# Altium footprint library OptoDevice.PcbLib: 103 footprints (part 5 of 7)
Each footprint in its own frame and in the unit in brackets; x right, y up, seen from the top. Pads: shape width x height; smd on the part's side, far side on the other; paste and mask are expansions set on the pad; w line width, h text height; cw(c..) or ccw(c..) is an arc to the next point about the centre after c.
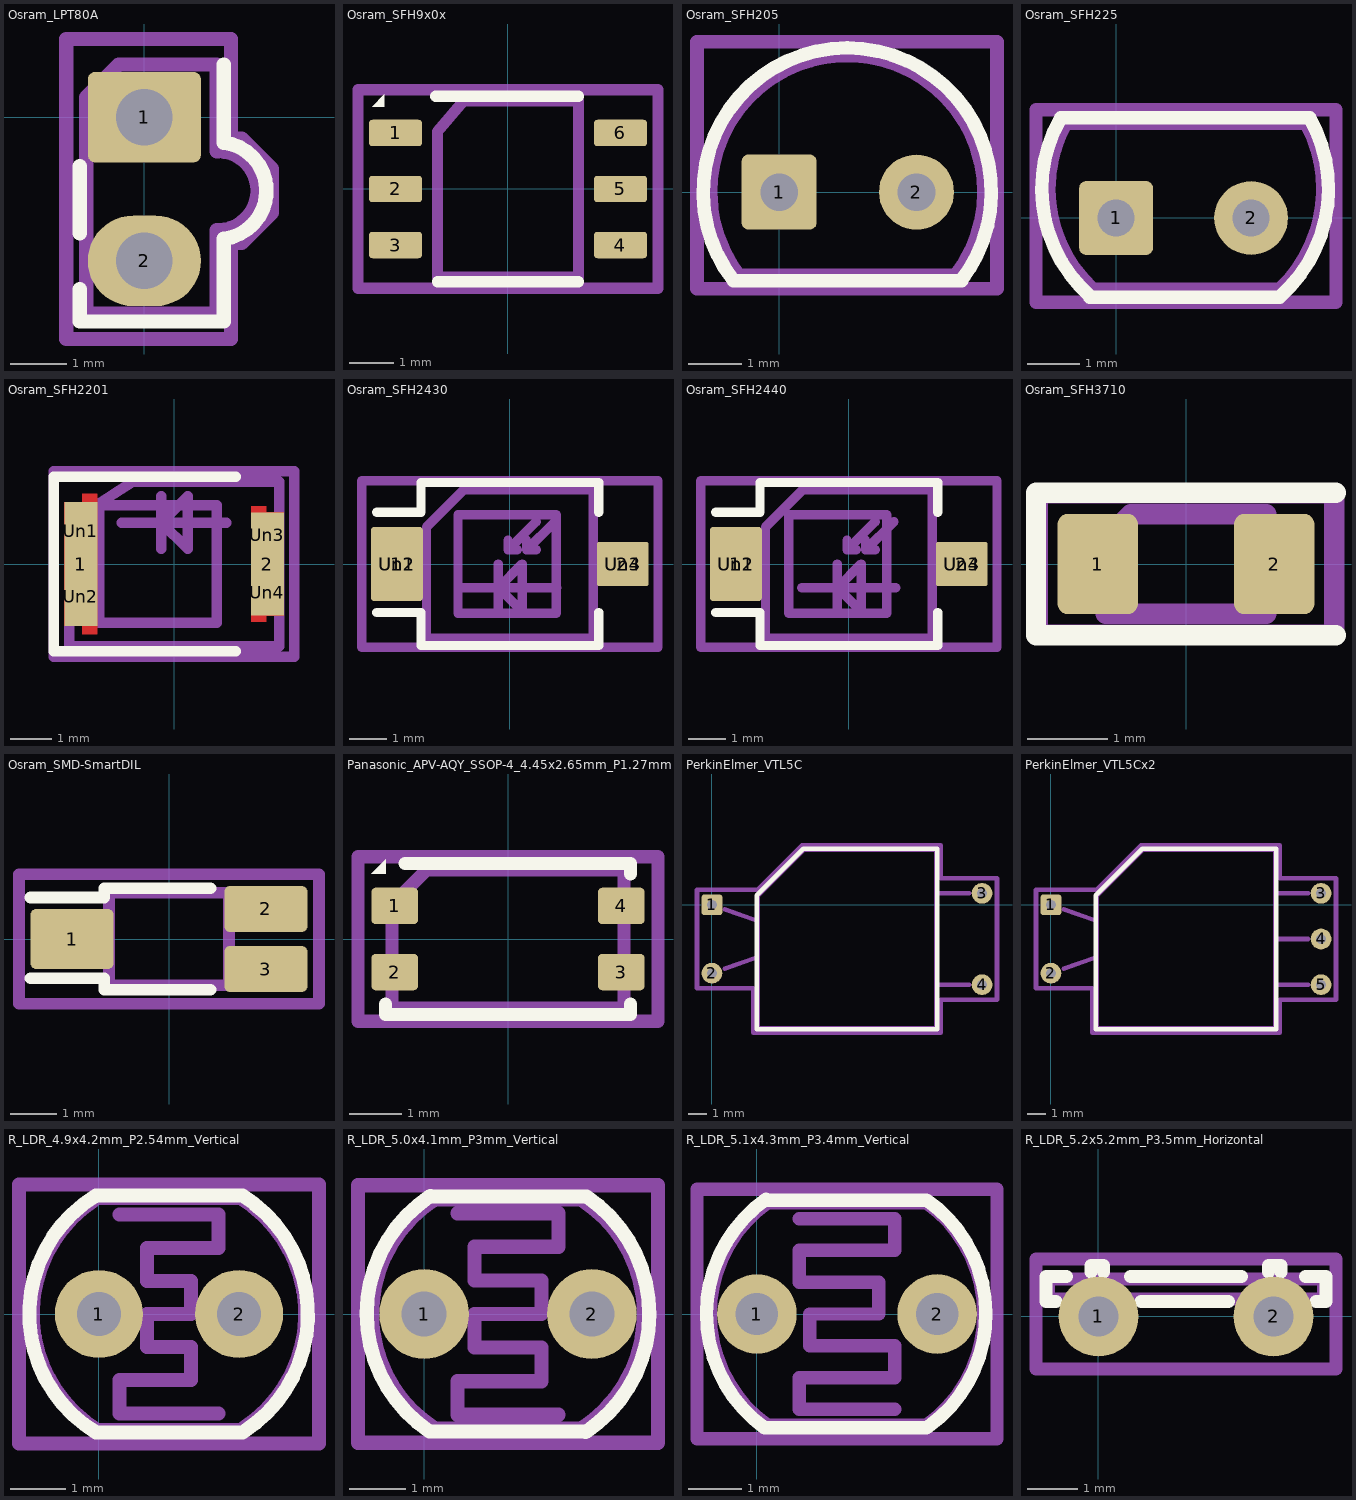
[diagram p4: the footprints below, top view; thin cyan lines are the x and y axes]

## Osram_LPT80A [mm]
pads (2):
  rrect16% 2x1.6 hole 1: 1(0,0)
  rrect100% 2x1.6 hole 1: 2(0,-2.54)
F.SilkS:
  lines w0.254: -1.14,-3.04 -1.14,-3.61 1.4,-3.61 1.4,-2.15 ccw(c1.3,-1.3) 2.15,-1.2 ; -1.14,-2.05 -1.14,-0.87 ; 1.4,0.93 1.4,-0.45 cw(c1.3,-1.3) 2.15,-1.4
Top Assembly:
  lines w0.254: 1.28,-2 1.28,-3.47 -1.03,-3.47 -1.03,0.35 -0.45,0.93 1.28,0.93 1.28,-0.6 ; 1.3,-2 ccw(c1.3,-1.3) 2,-1.3 ccw(c1.3,-1.3) 1.3,-0.6
  text "'.Designator'" at 1.04,-5.347 h1
Top Courtyard:
  lines w0.254: -1.38,-3.92 1.53,-3.92 1.53,-2.22 1.72,-2.22 2.25,-1.69 2.25,-0.91 1.72,-0.38 1.53,-0.38 1.53,1.38 -1.38,1.38 -1.38,-3.92
Top Designator:
  text ".Designator" at -7.183,-1.958 h1.52
3D body "Osram_LPT80A.step": height 5.69, standoff -16.25, extent -0.787,-3.47 1.46,0.93

## Osram_SFH9x0x [mm]
pads (6):
  rrect25% 1.2x0.6 smd: 1(-2.55,1.27) 2(-2.55,0) 3(-2.55,-1.27) 4(2.55,-1.27) 5(2.55,0) 6(2.55,1.27)
F.SilkS:
  region: -2.8,1.87 -3.08,1.87 -2.8,2.15
  lines w0.254: -1.64,2.1 1.6,2.1 ; -1.6,-2.1 1.6,-2.1
Top Assembly:
  lines w0.254: -1.6,-2 1.6,-2 1.6,2 -1,2 -1.6,1.3 -1.6,-2
  text "'.Designator'" at -3.033,-0.728 h0.75
Top Courtyard:
  lines w0.254: -3.4,-2.25 3.4,-2.25 3.4,2.25 -3.4,2.25 -3.4,-2.25
Top Designator:
  text ".Designator" at -7.618,-0.508 h1.52
3D body "Osram_SFH9x0x.step": height 1.95, standoff 0, extent -3,-2 3,2

## Osram_SFH205 [mm]
pads (2):
  rrect18% 1.4x1.4 hole 0.7: 1(0,0)
  round 1.4 hole 0.7: 2(2.56,0)
F.SilkS:
  lines w0.254: 3.394,-1.645 ccw(c1.27,0) -0.85,-1.65 3.4,-1.65
Top Assembly:
  lines w0.254: 3.294,-1.545 ccw(c1.27,0) -0.75,-1.55 3.3,-1.55
  text "'.Designator'" at -2.777,-0.133 h1
Top Courtyard:
  lines w0.254: -1.53,-1.8 4.06,-1.8 4.06,2.8 -1.53,2.8 -1.53,-1.8
Top Designator:
  text ".Designator" at -6.498,-0.008 h1.52
3D body "Osram_SFH205.step": height 9.9, standoff -3, extent -1.28,-1.55 3.817,2.55

## Osram_SFH225 [mm]
pads (2):
  rrect18% 1.4x1.4 hole 0.7: 1(0,0)
  round 1.4 hole 0.7: 2(2.56,0)
F.SilkS:
  lines w0.254: -0.5,-1.5 3.05,-1.5 ; -0.489,-1.488 cw(c1.3,0.549) -1.05,1.9 3.65,1.9 ; 3.1,-1.5 ccw(c1.3,0.55) 3.669,1.904
Top Assembly:
  lines w0.254: -0.45,-1.35 3.1,-1.35 ccw(c1.3,0.55) 3.59,1.817 ; -0.444,-1.343 cw(c1.3,0.55) -0.95,1.8 3.55,1.8
  text "'.Designator'" at -2.759,-0.39 h1
Top Courtyard:
  lines w0.254: -1.52,-1.6 4.17,-1.6 4.17,2.05 -1.52,2.05 -1.52,-1.6
Top Designator:
  text ".Designator" at -6.48,-0.283 h1.52
3D body "Osram_SFH225.step": height 9.9, standoff -3, extent -1.28,-1.35 3.82,1.75

## Osram_SFH2201 [mm]
pads (6):
  rect 0.8x3 smd: 1(-2.265,0)
  rect 0.8x2.5 smd: 2(2.265,0)
  rect 0.6x1 on Top Paste: Un1(-2.265,0.8) Un2(-2.265,-0.8) Un3(2.265,0.7) Un4(2.265,-0.7)
F.Cu:
  region: -1.865,-1.7 -2.235,-1.7 -2.235,-1.5 -2.665,-1.5 -2.665,1.5 -2.235,1.5 -2.235,1.7 -1.865,1.7
  region: 2.235,1.25 2.665,1.25 2.665,-1.25 2.235,-1.25 2.235,-1.4 1.865,-1.4 1.865,1.4 2.235,1.4
F.SilkS:
  lines w0.254: 1.5,-2.12 -2.925,-2.12 -2.925,2.12 1.5,2.12
F.Mask:
  region: -1.865,-1.7 -2.235,-1.7 -2.235,-1.5 -2.665,-1.5 -2.665,1.5 -2.235,1.5 -2.235,1.7 -1.865,1.7
  region: 2.235,1.25 2.665,1.25 2.665,-1.25 2.235,-1.25 2.235,-1.4 1.865,-1.4 1.865,1.4 2.235,1.4
Top Assembly:
  lines w0.254: -1.27,1 1.27,1 ; -0.31,0.37 -0.31,1.64 ; -2.545,-2 -2.545,1 -1,2 2.545,2 2.545,-2 -2.545,-2 ; -0.31,1 0.33,1.64 0.33,0.37 -0.31,1
  text "'.Designator'" at -4.047,-1.84 h1
Top Courtyard:
  lines w0.254: -2.92,-2.25 -2.92,2.25 2.92,2.25 2.92,-2.25 -2.92,-2.25
Top Designator:
  text ".Designator" at -7.768,-0.508 h1.52
Cmts.User:
  lines w0.254: -1.815,-1.425 -1.815,1.425 1.035,1.425 1.035,-1.425 -1.815,-1.425

## Osram_SFH2430 [mm]
pads (6):
  rrect12% 1.4x2 smd: 1(-3.05,0)
  rrect12% 1.4x1.2 smd: 2(3.05,0)
  rrect12% 1.3x1.9 on Top Paste: Un1(-3.05,0)
  rrect12% 1.5x2.1 on Top Solder: Un2(-3.05,0)
  rrect12% 1.3x1.1 on Top Paste: Un3(3.05,0)
  rrect12% 1.5x1.3 on Top Solder: Un4(3.05,0)
F.SilkS:
  lines w0.254: -3.59,-1.31 -2.4,-1.31 -2.4,-2.2 2.4,-2.2 2.4,-1.31 ; -3.59,1.4 -2.41,1.4 ; -2.4,1.4 -2.4,2.2 2.4,2.2 2.4,1.4
Top Assembly:
  lines w0.254: -1.27,-0.64 1.27,-0.64 ; -0.31,-1.27 -0.31,0 ; -0.05,0.64 -0.05,0.38 ; 0.2,0.38 -0.05,0.38 ; 0.45,0.64 0.45,0.38 ; 0.71,0.38 0.45,0.38 ; 0.71,1.14 -0.05,0.38 ; 1.22,1.14 0.45,0.38 ; -2.25,-2 2.25,-2 2.25,2 -1.25,2 -2.25,1 -2.25,-2 ; -0.31,-0.64 0.33,-1.27 0.33,0 -0.31,-0.64
  text "'.Designator'" at -4.037,2.36 h1
Top Courtyard:
  lines w0.254: -4,-2.25 4,-2.25 4,2.25 -4,2.25 -4,-2.25
Top Designator:
  text ".Designator" at -7.647,0.082 h1.52
Cmts.User:
  lines w0.254: -1.4,-1.325 1.25,-1.325 1.25,1.325 -1.4,1.325 -1.4,-1.325

## Osram_SFH2440 [mm]
pads (6):
  rrect12% 1.4x2 smd: 1(-3.05,0)
  rrect12% 1.4x1.2 smd: 2(3.05,0)
  rrect12% 1.3x1.9 on Top Paste: Un1(-3.05,0)
  rrect12% 1.5x2.1 on Top Solder: Un2(-3.05,0)
  rrect12% 1.3x1.1 on Top Paste: Un3(3.05,0)
  rrect12% 1.5x1.3 on Top Solder: Un4(3.05,0)
F.SilkS:
  lines w0.254: -3.59,-1.31 -2.4,-1.31 -2.4,-2.2 2.4,-2.2 2.4,-1.31 ; -3.59,1.4 -2.41,1.4 ; -2.4,1.4 -2.4,2.2 2.4,2.2 2.4,1.4
Top Assembly:
  lines w0.254: -1.27,-0.64 1.27,-0.64 ; -0.31,-1.27 -0.31,0 ; -0.05,0.64 -0.05,0.38 ; 0.2,0.38 -0.05,0.38 ; 0.45,0.64 0.45,0.38 ; 0.71,0.38 0.45,0.38 ; 0.71,1.14 -0.05,0.38 ; 1.22,1.14 0.45,0.38 ; -2.25,-2 2.25,-2 2.25,2 -1.25,2 -2.25,1 -2.25,-2 ; -0.31,-0.64 0.33,-1.27 0.33,0 -0.31,-0.64
  text "'.Designator'" at -4.037,2.36 h1
Top Courtyard:
  lines w0.254: -4,-2.25 4,-2.25 4,2.25 -4,2.25 -4,-2.25
Top Designator:
  text ".Designator" at -7.647,0.082 h1.52
Cmts.User:
  lines w0.254: -1.625,-1.325 1.025,-1.325 1.025,1.325 -1.625,1.325 -1.625,-1.325

## Osram_SFH3710 [mm]
pads (2):
  rrect25% 1x1.25 smd: 1(-1.1,0) 2(1.1,0)
F.SilkS:
  lines w0.254: 1.87,-0.89 -1.87,-0.89 -1.87,0.89 1.87,0.89
Top Assembly:
  lines w0.254: -1,-0.62 1,-0.62 1,0.62 -0.69,0.62 -1,0.31 -1,-0.62
  text "'.Designator'" at -2.023,-0.42 h0.5
Top Courtyard:
  lines w0.254: -1.85,-0.88 1.85,-0.88 1.85,0.88 -1.85,0.88 -1.85,-0.88
Top Designator:
  text ".Designator" at -7.668,-0.508 h1.52

## Osram_SMD-SmartDIL [mm]
pads (3):
  rrect19% 1.8x1.3 smd: 1(-2.1,0)
  rrect25% 1.8x1 smd: 2(2.1,0.65) 3(2.1,-0.65)
F.SilkS:
  lines w0.254: -3,-0.85 -1.4,-0.85 -1.4,-1.1 0.9,-1.1 ; -3,0.9 -1.4,0.9 -1.4,1.1 0.9,1.1
Top Assembly:
  lines w0.254: -1.35,-0.4 -2.3,-0.4 -2.3,0.4 -1.3,0.4 ; 1.3,-0.7 2.3,-0.7 2.3,-0.3 1.3,-0.3 ; 1.3,0.3 2.3,0.3 2.3,0.7 1.3,0.7 ; -1.3,-1 1.3,-1 1.3,1 -1.3,1 -1.3,-1
  text "'.Designator'" at -4.047,-0.84 h1
Top Courtyard:
  lines w0.254: -3.25,-1.4 3.25,-1.4 3.25,1.4 -3.25,1.4 -3.25,-1.4
Top Designator:
  text ".Designator" at -7.768,-0.508 h1.52

## Panasonic_APV-AQY_SSOP-4_4.45x2.65mm_P1.27mm [mm]
pads (4):
  rrect25% 0.9x0.7 smd: 1(-2.175,0.635) 2(-2.175,-0.635) 3(2.175,-0.635) 4(2.175,0.635)
F.SilkS:
  region: -2.35,1.25 -2.63,1.25 -2.35,1.53
  lines w0.254: -2.35,-1.25 -2.35,-1.45 2.35,-1.45 2.35,-1.25 ; -1.98,1.45 2.35,1.45 2.35,1.25
Top Assembly:
  lines w0.254: -2.225,-1.325 2.225,-1.325 2.225,1.325 -1.562,1.325 -2.225,0.663 -2.225,-1.325
  text "'.Designator'" at -4.047,-0.84 h1
Top Courtyard:
  lines w0.254: -2.88,-1.58 2.88,-1.58 2.88,1.58 -2.88,1.58 -2.88,-1.58
Top Designator:
  text ".Designator" at -7.768,-0.508 h1.52

## PerkinElmer_VTL5C [mm]
pads (4):
  rrect25% 1.15x1.15 hole 0.55: 1(0,0)
  round 1.15 hole 0.55: 2(0,-3.8) 3(15,0.64) 4(15,-4.44)
F.SilkS:
  lines w0.254: 2.49,-6.91 12.51,-6.91 12.51,3.11 5.07,3.11 2.49,0.53 2.49,-6.91
Top Assembly:
  lines w0.254: 0.7,-3.55 2.55,-2.9 ; 0.7,-0.25 2.55,-0.9 ; 12.45,-4.44 14.3,-4.44 ; 12.45,0.64 14.3,0.64 ; 2.55,-6.85 12.45,-6.85 12.45,3.05 5.1,3.05 2.55,0.5 2.55,-6.85
  text "'.Designator'" at 3.503,-2.69 h1
Top Courtyard:
  lines w0.254: -0.83,-4.63 2.3,-4.63 2.3,-7.1 12.7,-7.1 12.7,-5.27 15.83,-5.27 15.83,1.47 12.7,1.47 12.7,3.3 5,3.3 2.53,0.83 -0.83,0.83 -0.83,-4.63
Top Designator:
  text ".Designator" at -0.118,-2.408 h1.52

## PerkinElmer_VTL5Cx2 [mm]
pads (5):
  rrect25% 1.15x1.15 hole 0.55: 1(0,0)
  round 1.15 hole 0.55: 2(0,-3.8) 3(15,0.64) 4(15,-1.9) 5(15,-4.44)
F.SilkS:
  lines w0.254: 2.49,-6.91 2.49,0.53 5.07,3.11 12.51,3.11 12.51,-6.91 2.49,-6.91
Top Assembly:
  lines w0.254: 0.7,-3.55 2.55,-2.9 ; 0.7,-0.25 2.55,-0.9 ; 12.45,-4.44 14.3,-4.44 ; 12.45,-1.9 14.3,-1.9 ; 12.45,0.64 14.3,0.64 ; 2.55,-6.85 2.55,0.5 5.1,3.05 12.45,3.05 12.45,-6.85 2.55,-6.85
  text "'.Designator'" at 3.503,-2.69 h1
Top Courtyard:
  lines w0.254: -0.83,-4.63 -0.83,0.83 2.53,0.83 5,3.3 12.7,3.3 12.7,1.47 15.83,1.47 15.83,-5.27 12.7,-5.27 12.7,-7.1 2.3,-7.1 2.3,-4.63 -0.83,-4.63
Top Designator:
  text ".Designator" at -0.118,-2.408 h1.52

## R_LDR_4.9x4.2mm_P2.54mm_Vertical [mm]
pads (2):
  round 1.6 hole 0.8: 1(0,0) 2(2.54,0)
F.SilkS:
  lines w0.254: -0.075,2.134 ccw(c1.25,0) -0.05,-2.15 2.6,-2.15 ; -0.05,2.15 2.6,2.15 cw(c1.25,0) 2.628,-2.132
Top Assembly:
  lines w0.254: -0.084,2.066 ccw(c1.27,0) -0.03,-2.1 2.57,-2.1 ; -0.03,2.1 2.57,2.1 cw(c1.27,0) 2.624,-2.066 ; 0.37,1.8 2.17,1.8 2.17,1.2 0.87,1.2 0.87,0.6 1.67,0.6 1.67,0 0.87,0 0.87,-0.6 1.67,-0.6 1.67,-1.2 0.37,-1.2 0.37,-1.8 2.17,-1.8
  text "'.Designator'" at -2.777,2.06 h1
Top Courtyard:
  lines w0.254: -1.45,-2.35 3.99,-2.35 3.99,2.35 -1.45,2.35 -1.45,-2.35
Top Designator:
  text ".Designator" at -6.498,-0.118 h1.52
3D body "R_LDR_4.9x4.2mm_P2.54mm_Vertical.step": height 4, standoff -3, extent -1.18,-2.1 3.72,2.1

## R_LDR_5.0x4.1mm_P3mm_Vertical [mm]
pads (2):
  round 1.6 hole 0.8: 1(0,0) 2(3,0)
F.SilkS:
  lines w0.254: 0.1,2.1 2.9,2.1 cw(c1.5,0) 2.886,-2.109 ; 0.114,2.109 ccw(c1.5,0) 0.1,-2.1 2.9,-2.1
Top Assembly:
  lines w0.254: 0.156,2.021 ccw(c1.5,0) 0.2,-2.05 2.8,-2.05 ; 0.2,2.05 2.8,2.05 cw(c1.5,0) 2.844,-2.021 ; 0.6,1.8 2.4,1.8 2.4,1.2 0.9,1.2 0.9,0.6 2.1,0.6 2.1,0.5 2.1,0 0.9,0 0.9,-0.6 2.1,-0.6 2.1,-1.2 0.6,-1.2 0.6,-1.8 2.4,-1.8
  text "'.Designator'" at -2.547,2.06 h1
Top Courtyard:
  lines w0.254: -1.18,-2.3 4.18,-2.3 4.18,2.3 -1.18,2.3 -1.18,-2.3
Top Designator:
  text ".Designator" at -6.268,-0.093 h1.52
3D body "R_LDR_5.0x4.1mm_P3mm_Vertical.step": height 4, standoff -3, extent -1,-2.05 4,2.05

## R_LDR_5.1x4.3mm_P3.4mm_Vertical [mm]
pads (2):
  round 1.5 hole 0.8: 1(0,0) 2(3.4,0)
F.SilkS:
  lines w0.254: 0.15,2.15 3.2,2.15 cw(c1.7,0) 3.245,-2.118 ; 0.172,2.166 ccw(c1.7,0) 0.15,-2.15 3.2,-2.15
Top Assembly:
  lines w0.254: 0.2,2.1 3.2,2.1 cw(c1.7,0) 3.197,-2.102 ; 0.203,2.102 ccw(c1.7,0) 0.2,-2.1 3.2,-2.1 ; 0.8,1.8 2.6,1.8 2.6,1.2 0.8,1.2 0.8,0.6 2.3,0.6 2.3,0 1,0 1,-0.6 2.6,-0.6 2.6,-1.2 0.8,-1.2 0.8,-1.8 2.6,-1.8
  text "'.Designator'" at -2.347,2.06 h1
Top Courtyard:
  lines w0.254: -1.13,-2.35 4.53,-2.35 4.53,2.35 -1.13,2.35 -1.13,-2.35
Top Designator:
  text ".Designator" at -6.068,-0.118 h1.52
3D body "R_LDR_5.1x4.3mm_P3.4mm_Vertical.step": height 4, standoff -3, extent -0.85,-2.15 4.25,2.15

## R_LDR_5.2x5.2mm_P3.5mm_Horizontal [mm]
pads (2):
  round 1.6 hole 0.8: 1(0,0) 2(3.5,0)
F.SilkS:
  lines w0.254: -0.85,0.3 -1.05,0.3 -1.05,0.8 -0.64,0.8 ; -0.15,0.89 -0.15,1.02 0.1,1.02 0.1,0.89 ; 0.64,0.8 2.86,0.8 ; 0.85,0.3 2.6,0.3 ; 3.4,0.89 3.4,1.02 3.65,1.02 3.65,0.89 ; 4.14,0.8 4.55,0.8 4.55,0.3 4.35,0.3
Top Assembly:
  lines w0.254: 0,0 0,0.9 ; 3.5,0 3.5,0.9 ; -1,0.35 4.5,0.35 4.5,0.75 -1,0.75 -1,0.35
  text "'.Designator'" at -2.297,0.95 h1
Top Courtyard:
  lines w0.254: -1.25,-1.05 4.75,-1.05 4.75,1.15 -1.25,1.15 -1.25,-1.05
Top Designator:
  text ".Designator" at -6.018,-0.023 h1.52
3D body "R_LDR_5.2x5.2mm_P3.5mm_Horizontal.step": height 7.75, standoff -3, extent -0.85,-0.2 4.35,1.4